# Altium footprint library OptoDevice.PcbLib: 103 footprints (part 1 of 7)
Each footprint in its own frame and in the unit in brackets; x right, y up, seen from the top. Pads: shape width x height; smd on the part's side, far side on the other; paste and mask are expansions set on the pad; w line width, h text height; cw(c..) or ccw(c..) is an arc to the next point about the centre after c.
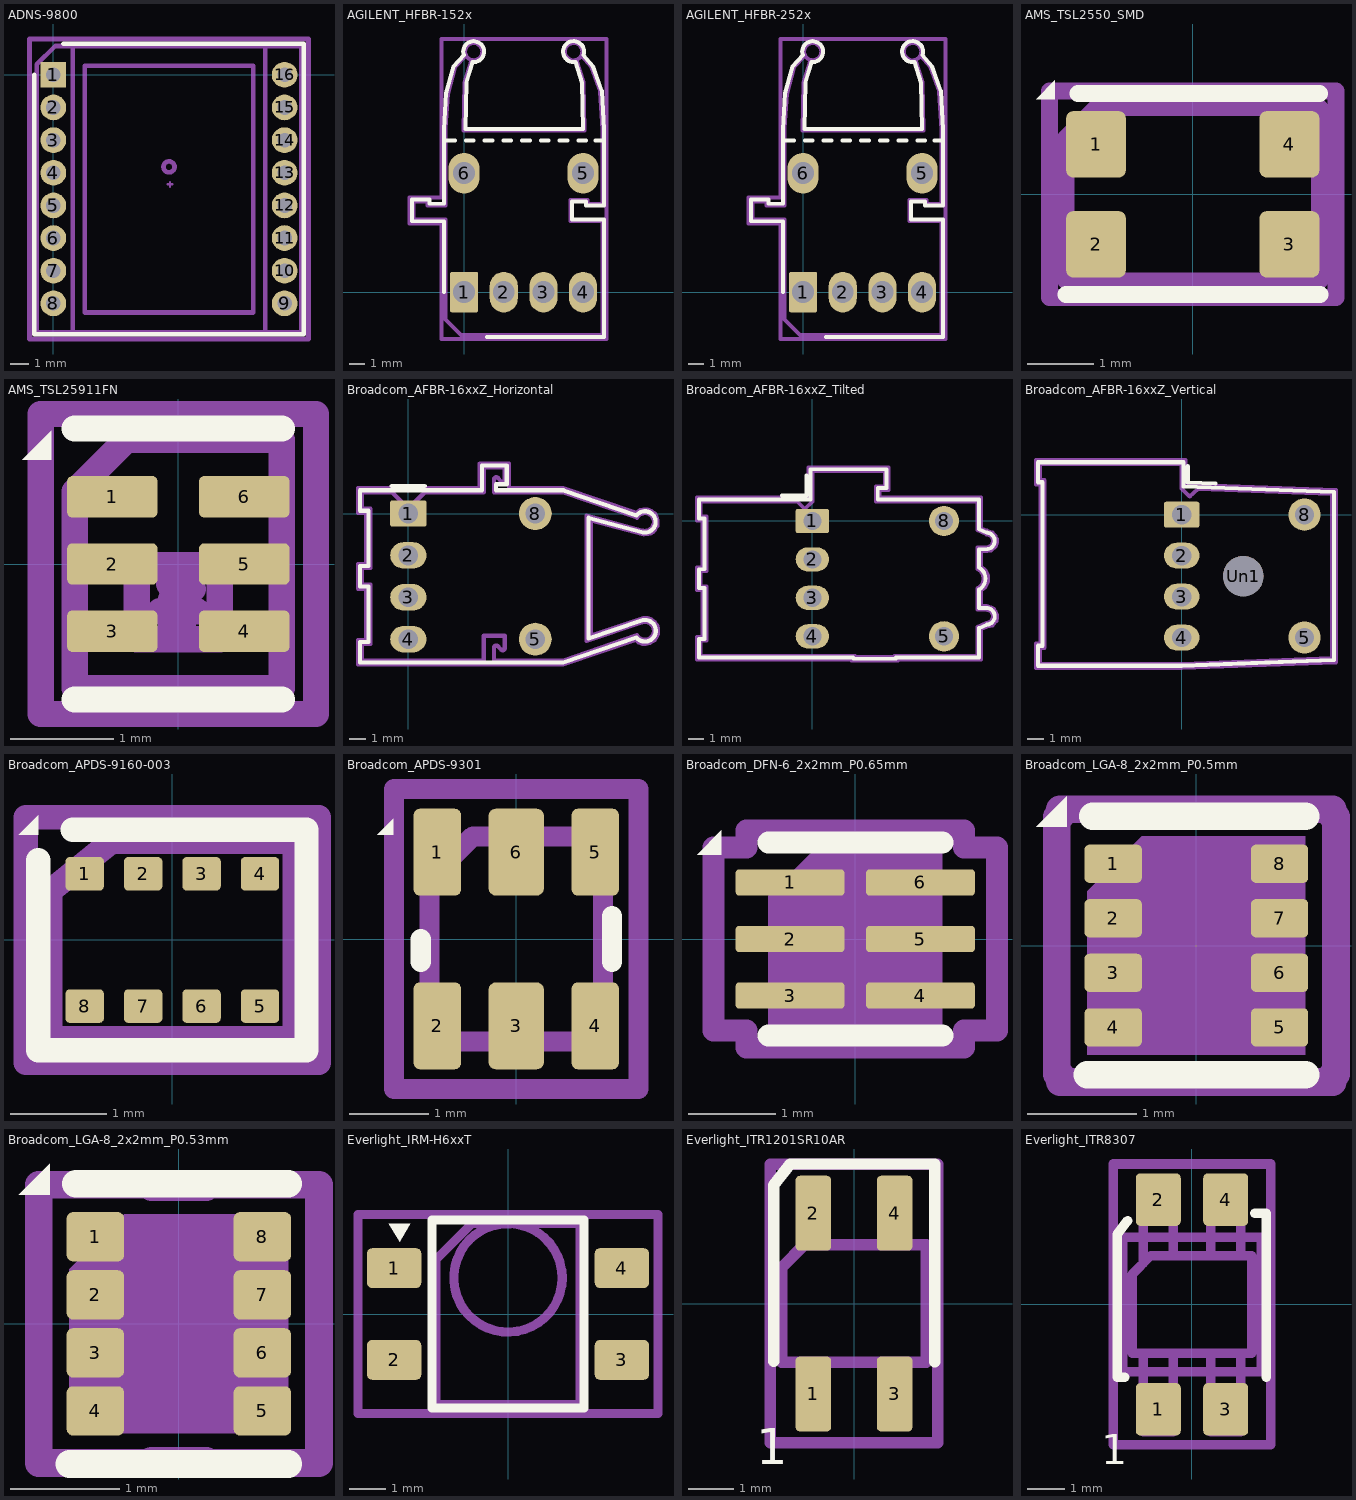
[diagram p0: the footprints below, top view; thin cyan lines are the x and y axes]

## ADNS-9800 [mm]
pads (16):
  rect 1.4x1.4 hole 0.8: 1(0,0)
  round 1.4 hole 0.8: 2(0,-1.78) 3(0,-3.56) 4(0,-5.34) 5(0,-7.12) 6(0,-8.9) 7(0,-10.68) 8(0,-12.46) 9(12.6,-12.46) 10(12.6,-10.68) 11(12.6,-8.9) 12(12.6,-7.12) 13(12.6,-5.34) 14(12.6,-3.56) 15(12.6,-1.78) 16(12.6,0)
F.SilkS:
  lines w0.254: -1.05,0 -1.05,-14.15 13.65,-14.15 13.65,1.7 0.55,1.7
Top Component Center:
  lines w0.127: 6.223,-5.969 6.477,-5.969 ; 6.35,-6.096 6.35,-5.842
Top Assembly:
  lines w0.254: 1.05,-14.03 1.05,1.57 ; 11.55,-14.03 11.55,1.57 ; -0.9,-14.03 13.5,-14.03 13.5,1.57 0.1,1.57 -0.9,0.57 -0.9,-14.03
  text "'.Designator'" at 2.253,-8.34 h1
Top Courtyard:
  lines w0.254: -1.3,-14.4 13.9,-14.4 13.9,1.95 -1.3,1.95 -1.3,-14.4
Top Designator:
  text ".Designator" at -1.318,-6.733 h1.52
Board Shape:
  lines w0.254: 1.7,-12.96 10.9,-12.96 10.9,0.5 1.7,0.5 1.7,-12.96
Dwgs.User:
  circle w0.254: c6.3,-5.02 r0.301
Cmts.User:
  text "Optical Center" at 3.764,-6.695 h0.5

## AGILENT_HFBR-152x [mm]
pads (6):
  rrect14% 1.8x2.6 hole 1.4: 1(0,0)
  rrect100% 1.8x2.6 hole 1.4: 2(2.54,0) 3(5.08,0) 4(7.62,0)
  rrect100% 2x2.6 hole 1.4: 5(7.62,7.62) 6(0,7.62)
F.SilkS:
  lines w0.254: -1.29,0 -1.29,4.54 -3.35,4.54 -3.35,5.92 -2.23,5.92 -2.23,5.66 -1.3,5.66 -1.3,10.43 -1.15,12.74 ; -1.15,12.73 -0.69,14.45 -0.02,15.18 cw(c0.61,15.4) 0.54,14.736 ; -1.09,9.7 -0.59,9.7 ; 0.11,9.7 0.61,9.7 ; 0.54,14.73 0.14,13.4 0.08,10.46 7.6,10.46 7.55,13.42 7.13,14.74 cw(c7.01,15.4) 7.64,15.17 8.26,14.45 8.82,12.87 8.97,10.42 8.97,5.54 7.8,5.54 7.8,5.79 6.92,5.79 6.92,4.66 8.97,4.66 8.97,-2.86 1.48,-2.86 ; 1.31,9.7 1.81,9.7 ; 2.51,9.7 3.01,9.7 ; 3.71,9.7 4.21,9.7 ; 4.91,9.7 5.41,9.7 ; 6.11,9.7 6.61,9.7 ; 7.31,9.7 7.81,9.7 ; 8.41,9.7 8.91,9.7
Top Assembly:
  circle w0.254: c7.01,15.4 r0.559
  circle w0.254: c0.61,15.4 r0.552
  lines w0.254: 0.11,15.15 -0.59,14.4 -1.04,12.7 -1.19,10.5 -1.19,5.55 -2.34,5.55 -2.34,5.8 -3.24,5.8 -3.24,4.65 -1.19,4.65 -1.19,-1.75 -0.19,-2.75 8.86,-2.75 8.86,4.55 6.81,4.55 6.81,5.9 7.91,5.9 7.91,5.65 8.86,5.65 8.86,10.4 8.71,12.85 8.16,14.4 7.51,15.15 ; 0.46,14.85 0.01,13.4 -0.04,10.35 7.71,10.35 7.66,13.45 7.21,14.85
  text "'.Designator'" at -1.237,5.765 h1
Top Courtyard:
  lines w0.254: -3.49,4.4 -1.44,4.4 -1.44,-3 9.11,-3 9.11,16.21 -1.44,16.21 -1.44,6.05 -3.49,6.05 -3.49,4.4
Top Designator:
  text ".Designator" at -4.808,6.097 h1.52

## AGILENT_HFBR-252x [mm]
pads (6):
  rrect14% 1.8x2.6 hole 1.4: 1(0,0)
  rrect100% 1.8x2.6 hole 1.4: 2(2.54,0) 3(5.08,0) 4(7.62,0)
  rrect100% 2x2.6 hole 1.4: 5(7.62,7.62) 6(0,7.62)
F.SilkS:
  lines w0.254: -1.29,0 -1.29,4.54 -3.35,4.54 -3.35,5.92 -2.23,5.92 -2.23,5.66 -1.3,5.66 -1.3,10.43 -1.15,12.74 ; -1.15,12.73 -0.69,14.45 -0.02,15.18 cw(c0.61,15.4) 0.54,14.736 ; -1.09,9.7 -0.59,9.7 ; 0.11,9.7 0.61,9.7 ; 0.54,14.73 0.14,13.4 0.08,10.46 7.6,10.46 7.55,13.42 7.13,14.74 cw(c7.01,15.4) 7.64,15.17 8.26,14.45 8.82,12.87 8.97,10.42 8.97,5.54 7.8,5.54 7.8,5.79 6.92,5.79 6.92,4.66 8.97,4.66 8.97,-2.86 1.48,-2.86 ; 1.31,9.7 1.81,9.7 ; 2.51,9.7 3.01,9.7 ; 3.71,9.7 4.21,9.7 ; 4.91,9.7 5.41,9.7 ; 6.11,9.7 6.61,9.7 ; 7.31,9.7 7.81,9.7 ; 8.41,9.7 8.91,9.7
Top Assembly:
  circle w0.254: c0.61,15.4 r0.552
  circle w0.254: c7.01,15.4 r0.559
  lines w0.254: 0.11,15.15 -0.59,14.4 -1.04,12.7 -1.19,10.5 -1.19,5.55 -2.34,5.55 -2.34,5.8 -3.24,5.8 -3.24,4.65 -1.19,4.65 -1.19,-1.75 -0.19,-2.75 8.86,-2.75 8.86,4.55 6.81,4.55 6.81,5.9 7.91,5.9 7.91,5.65 8.86,5.65 8.86,10.4 8.71,12.85 8.16,14.4 7.51,15.15 ; 0.46,14.85 0.01,13.4 -0.04,10.35 7.71,10.35 7.66,13.45 7.21,14.85
  text "'.Designator'" at -1.237,5.765 h1
Top Courtyard:
  lines w0.254: -3.49,4.4 -3.49,6.05 -1.44,6.05 -1.44,16.21 9.11,16.21 9.11,-3 -1.44,-3 -1.44,4.4 -3.49,4.4
Top Designator:
  text ".Designator" at -4.808,6.097 h1.52

## AMS_TSL2550_SMD [mm]
pads (4):
  rrect25% 0.9x1 smd: 1(-1.45,0.75) 2(-1.45,-0.75) 3(1.45,-0.75) 4(1.45,0.75)
F.SilkS:
  region: -2.07,1.43 -2.35,1.43 -2.07,1.71
  lines w0.254: -1.9,-1.5 1.91,-1.5 ; -1.72,1.51 1.9,1.51
Top Assembly:
  lines w0.254: -1.9,-1.3 1.9,-1.3 1.9,1.3 -1.45,1.3 -1.9,0.85 -1.9,-1.3
  text "'.Designator'" at -3.197,-0.632 h0.8
Top Courtyard:
  lines w0.254: -2.15,-1.55 2.15,-1.55 2.15,1.55 -2.15,1.55 -2.15,-1.55
Top Designator:
  text ".Designator" at -7.698,-0.491 h1.52
3D body "AMS_TSL2550_SMD.step": height 1.35, standoff 0, extent -1.9,-1.3 1.9,1.3

## AMS_TSL25911FN [mm]
pads (6):
  rrect25% 0.875x0.4 smd: 1(-0.637,0.65) 2(-0.637,0) 3(-0.637,-0.65) 4(0.637,-0.65) 5(0.637,0) 6(0.637,0.65)
F.SilkS:
  region: -1.23,1.01 -1.51,1.01 -1.23,1.29
  lines w0.254: -1,-1.31 1,-1.31 ; -1,1.31 1,1.31
Top Assembly:
  lines w0.254: -1,-1.2 -1,0.7 -0.5,1.2 1,1.2 1,-1.2 -1,-1.2
  text "'.Designator'" at 0.504,-2.428 h0.6
Top Courtyard:
  lines w0.254: -1.33,-1.45 -1.33,1.45 1.33,1.45 1.33,-1.45 -1.33,-1.45
Top Designator:
  text ".Designator" at -7.644,-0.598 h1.52
Cmts.User:
  lines w0.254: -0.178,-0.457 -0.076,-0.457 ; -0.076,-0.559 -0.076,-0.356 ; -0.013,-0.114 -0.064,-0.241 ; 0.051,-0.457 0.178,-0.457 ; 0.14,-0.14 0.089,-0.267 ; -0.076,-0.457 0.051,-0.356 0.051,-0.559 -0.076,-0.457 ; -0.064,-0.241 -0.089,-0.191 -0.013,-0.216 -0.064,-0.241 ; 0.089,-0.267 0.064,-0.216 0.14,-0.241 0.089,-0.267 ; -0.401,-0.728 -0.401,-0.012 0.401,-0.012 0.401,-0.728 -0.401,-0.728

## Broadcom_AFBR-16xxZ_Horizontal [mm]
pads (6):
  rrect16% 2.2x1.6 hole 1.2: 1(0,0)
  rrect100% 2.2x1.6 hole 1.2: 2(0,-2.54) 3(0,-5.08) 4(0,-7.62)
  round 2 hole 1.2: 5(7.7,-7.62) 8(7.7,0)
F.SilkS:
  lines w0.254: -2.92,1.397 -2.92,0.17 -2.42,0.17 -2.42,-3.19 -2.92,-3.19 -2.92,-4.43 -2.42,-4.43 -2.42,-7.79 -2.92,-7.79 -2.92,-9.03 9.4,-9.03 13.83,-7.51 ccw(c14.35,-7.11) 14.131,-6.492 ; -2.92,1.41 4.46,1.41 4.46,2.91 5.97,2.91 5.97,1.77 5.31,1.77 5.31,1.41 ; -1,1.67 1,1.67 ; 5.33,1.41 9.4,1.41 ; 9.41,1.41 13.84,-0.11 ; 13.84,-0.11 cw(c14.35,-0.51) 14.13,-1.12 10.93,-0.26 10.93,-7.58 14.14,-6.49
Top Assembly:
  lines w0.254: -2.3,-7.91 -2.8,-7.91 -2.8,-8.91 4.58,-8.91 4.58,-7.41 5.85,-7.41 5.85,-8.16 ; -2.3,-7.9 -2.3,-4.31 -2.8,-4.31 -2.8,-3.31 -2.3,-3.31 -2.3,0.29 -2.8,0.29 -2.8,1.29 -1,1.29 0,0.29 1,1.29 4.58,1.29 4.58,2.79 5.85,2.79 5.85,2.04 ; 5.19,-8.15 5.19,-8.91 9.4,-8.91 13.87,-7.37 ccw(c14.35,-7.11) 14.162,-6.597 ; 5.19,2.05 5.19,1.29 9.4,1.29 13.87,-0.25 ; 5.192,-8.154 cw(c5.34,-8.15) 5.47,-8.08 5.63,-8.25 ccw(c5.72,-8.16) 5.847,-8.16 ; 5.192,2.046 cw(c5.34,2.05) 5.47,2.12 5.63,1.95 ccw(c5.72,2.04) 5.847,2.04 ; 13.871,-0.251 cw(c14.35,-0.51) 14.162,-1.021 ; 14.16,-6.6 10.81,-7.73 10.81,-0.11 14.16,-1.02
  text "'.Designator'" at -0.197,-4.65 h1
Top Courtyard:
  lines w0.254: -3.05,-9.16 9.4,-9.16 13.8,-7.66 13.95,-7.8 14.2,-7.9 14.4,-7.9 14.65,-7.84 14.9,-7.7 15.05,-7.5 15.14,-7.3 15.14,-7 15.1,-6.8 14.95,-6.6 14.7,-6.4 14.52,-6.34 14.24,-6.34 13.99,-6.42 11.06,-7.4 11.06,-0.41 14.28,-1.28 14.55,-1.25 14.7,-1.2 14.85,-1.1 14.95,-1 15.1,-0.75 15.1,-0.4 15.05,-0.2 14.95,0 14.75,0.15 14.5,0.25 14.25,0.25 14.05,0.2 13.8,0.05 9.4,1.54 6.1,1.54 6.1,3.04 4.33,3.04 4.33,1.54 -3.05,1.54 -3.05,0.04 -2.55,0.04 -2.55,-3.06 -3.05,-3.06 -3.05,-4.56 -2.55,-4.56 -2.55,-7.66 -3.05,-7.66 -3.05,-9.16
Top Designator:
  text ".Designator" at -1.573,-3.568 h1.52
3D body "Broadcom_AFBR-16xxZ_Horizontal.step": height 7.6, standoff -3.8, extent -2.8,-8.91 14.906,2.79

## Broadcom_AFBR-16xxZ_Tilted [mm]
pads (6):
  rrect16% 2.2x1.6 hole 1.2: 1(0,0)
  rrect100% 2.2x1.6 hole 1.2: 2(0,-2.54) 3(0,-5.08) 4(0,-7.62)
  round 2 hole 1.2: 5(8.7,-7.62) 8(8.7,0)
F.SilkS:
  lines w0.254: -2,1.67 -0.38,1.67 -0.38,3 ; 11.02,-4.54 11.02,-5.75 11.51,-5.75 ; 11.02,-3.08 11.02,-1.87 11.51,-1.87 ; 11.03,-4.53 ccw(c10.6,-3.81) 11.036,-3.094 ; 11.5,-5.749 cw(c11.5,-6.3) 11.54,-6.85 11.02,-7.08 11.02,-9.03 5.53,-9.03 5.53,-9.1 2.7,-9.1 2.7,-9.03 -7.49,-9.03 -7.49,-7.79 -7.12,-7.79 -7.12,-4.43 -7.49,-4.43 -7.49,-3.19 -7.12,-3.19 -7.12,0.17 -7.49,0.17 -7.49,1.41 -0.12,1.41 -0.12,3.41 4.91,3.41 4.91,2.17 4.32,2.17 4.32,1.41 11.02,1.41 11.02,-0.54 11.53,-0.77 ; 11.5,-1.87 ccw(c11.5,-1.32) 11.54,-0.771
Top Assembly:
  lines w0.254: 10.9,-3.18 10.9,-1.75 11.51,-1.75 ; 10.912,-3.176 cw(c10.6,-3.81) 10.9,-4.45 10.9,-5.87 11.51,-5.87 ; 11.5,-5.87 cw(c11.5,-6.3) 11.5,-6.73 10.9,-7 10.9,-8.91 5.41,-8.91 5.41,-8.98 2.82,-8.98 2.82,-8.91 -7.37,-8.91 -7.37,-7.91 -7,-7.91 -7,-4.31 -7.37,-4.31 -7.37,-3.31 -7,-3.31 -7,0.29 -7.37,0.29 -7.37,1.29 -1,1.29 -0.5,0.79 0,1.29 0,3.29 4.79,3.29 4.79,2.29 4.2,2.29 4.2,1.29 10.9,1.29 10.9,-0.62 11.5,-0.89 ; 11.5,-1.75 ccw(c11.5,-1.32) 11.51,-0.89
  text "'.Designator'" at 0.653,-4.67 h1
Top Courtyard:
  lines w0.254: 11.15,-0.48 11.53,-0.64 11.9,-0.75 12.1,-1 12.2,-1.2 12.2,-1.4 12.1,-1.7 11.81,-1.95 11.54,-2 11.15,-2 11.15,-3.02 11.42,-3.25 11.61,-3.6 11.61,-4 11.42,-4.4 11.15,-4.6 11.15,-5.62 11.51,-5.62 11.8,-5.7 12,-5.8 12.1,-5.99 12.2,-6.2 12.2,-6.4 12.16,-6.6 11.9,-6.9 11.56,-6.98 11.15,-7.16 11.15,-9.16 5.66,-9.16 5.66,-9.23 2.57,-9.23 2.57,-9.16 -7.62,-9.16 -7.62,-7.66 -7.25,-7.66 -7.25,-4.56 -7.62,-4.56 -7.62,-3.06 -7.25,-3.06 -7.25,0.04 -7.62,0.04 -7.62,1.54 -0.25,1.54 -0.25,3.54 5.04,3.54 5.04,2.04 4.45,2.04 4.45,1.54 11.15,1.54 ; 11.15,-0.47 11.15,1.51
Top Designator:
  text ".Designator" at -5.328,-3.353 h1.52
3D body "Broadcom_AFBR-16xxZ_Tilted.step": height 14.89, standoff -3.8, extent -6.225,-8.91 13.116,2.79

## Broadcom_AFBR-16xxZ_Vertical [mm]
pads (7):
  rrect16% 2.2x1.6 hole 1.2: 1(0,0)
  rrect100% 2.2x1.6 hole 1.2: 2(0,-2.54) 3(0,-5.08) 4(0,-7.62)
  round 2 hole 1.2: 5(7.62,-7.62) 8(7.62,0)
  round 2.5 hole 2.5: Un1(3.82,-3.81)
F.SilkS:
  lines w0.254: 0.38,3 0.38,1.99 2.1,1.92 ; -8.9,-9.37 0,-9.37 9.44,-9.02 9.44,1.4 0.12,1.75 0.12,3.25 -8.9,3.25 -8.9,2.01 -8.62,2.01 -8.62,-8.13 -8.9,-8.13 -8.9,-9.37
Top Assembly:
  lines w0.254: 0,1.62 0.5,1.12 1,1.59 9.32,1.28 9.32,-8.9 0,-9.25 -8.78,-9.25 -8.78,-8.25 -8.5,-8.25 -8.5,2.13 -8.78,2.13 -8.78,3.13 0,3.13 0,1.63
  text "'.Designator'" at -8.047,-4.65 h1
Top Courtyard:
  lines w0.254: -9.03,-9.5 0,-9.5 9.57,-9.15 9.57,1.53 0.25,1.88 0.25,3.38 -9.03,3.38 -9.03,1.88 -8.75,1.88 -8.75,-8 -9.03,-8 -9.03,-9.5
Top Designator:
  text ".Designator" at -7.348,-3.568 h1.52
3D body "Broadcom_AFBR-16xxZ_Vertical.step": height 17.95, standoff -3, extent -8.6,-9.11 9.2,2.59

## Broadcom_APDS-9160-003 [mm]
pads (8):
  rrect25% 0.4x0.35 smd: 1(-0.915,0.69) 2(-0.305,0.69) 3(0.305,0.69) 4(0.915,0.69) 5(0.915,-0.69) 6(0.305,-0.69) 7(-0.305,-0.69) 8(-0.915,-0.69)
F.SilkS:
  region: -1.4,1.1 -1.6,1.1 -1.4,1.3
  lines w0.254: -1.4,0.83 -1.4,-1.15 1.4,-1.15 1.4,1.15 -1.04,1.15
Top Assembly:
  lines w0.254: -1.275,-1.025 -1.275,0.513 -0.637,1.025 1.275,1.025 1.275,-1.025 -1.275,-1.025
  text "'.Designator'" at -2.028,-0.425 h0.5
Top Courtyard:
  lines w0.254: -1.53,-1.28 -1.53,1.28 1.53,1.28 1.53,-1.28 -1.53,-1.28
Top Designator:
  text ".Designator" at -7.698,-0.508 h1.52

## Broadcom_APDS-9301 [mm]
pads (6):
  rrect25% 0.6x1.1 smd: 1(-1,1.1) 2(-1,-1.1) 4(1,-1.1) 5(1,1.1)
  rrect25% 0.7x1.1 smd: 3(0,-1.1) 6(0,1.1)
F.SilkS:
  region: -1.56,1.32 -1.76,1.32 -1.56,1.52
  lines w0.254: -1.21,-0.29 -1.21,0 ; 1.21,-0.29 1.21,0.29
Top Assembly:
  lines w0.254: -1.1,-1.3 1.1,-1.3 1.1,1.3 -0.55,1.3 -1.1,0.75 -1.1,-1.3
  text "'.Designator'" at -2.028,-0.425 h0.5
Top Courtyard:
  lines w0.254: -1.55,-1.9 1.55,-1.9 1.55,1.9 -1.55,1.9 -1.55,-1.9
Top Designator:
  text ".Designator" at -7.698,-0.508 h1.52

## Broadcom_DFN-6_2x2mm_P0.65mm [mm]
pads (6):
  rrect25% 1.25x0.3 smd: 1(-0.75,0.65) 2(-0.75,0) 3(-0.75,-0.65) 4(0.75,-0.65) 5(0.75,0) 6(0.75,0.65)
F.SilkS:
  region: -1.54,0.97 -1.82,0.97 -1.54,1.25
  lines w0.254: -1,-1.11 1,-1.11 ; -1,1.11 1,1.11
Top Assembly:
  region: 1,-1 -1,-1 -1,0.5 -0.5,1 1,1
  text "'.Designator'" at -2.028,-0.425 h0.5
Top Courtyard:
  lines w0.254: -1.63,-1.05 -1.25,-1.05 -1.25,-1.25 1.25,-1.25 1.25,-1.05 1.63,-1.05 1.63,1.05 1.25,1.05 1.25,1.25 -1.25,1.25 -1.25,1.05 -1.63,1.05 -1.63,-1.05
Top Designator:
  text ".Designator" at -7.698,-0.508 h1.52

## Broadcom_LGA-8_2x2mm_P0.5mm [mm]
pads (8):
  rrect25% 0.525x0.35 smd: 1(-0.763,0.75) 2(-0.763,0.25) 3(-0.763,-0.25) 4(-0.763,-0.75) 5(0.763,-0.75) 6(0.763,-0.25) 7(0.763,0.25) 8(0.763,0.75)
F.SilkS:
  region: -1.19,1.09 -1.47,1.09 -1.19,1.37
  lines w0.254: -1,-1.185 1,-1.185 ; -0.95,1.185 1,1.185
Top Assembly:
  region: 1,-1 -1,-1 -1,0.5 -0.5,1 1,1
  text "'.Designator'" at -2.028,-0.425 h0.5
Top Courtyard:
  lines w0.254: -1.28,-1.18 -1.25,-1.18 -1.25,-1.25 1.25,-1.25 1.25,-1.18 1.28,-1.18 1.28,1.18 1.25,1.18 1.25,1.25 -1.25,1.25 -1.25,1.18 -1.28,1.18 -1.28,-1.18
Top Designator:
  text ".Designator" at -7.698,-0.508 h1.52

## Broadcom_LGA-8_2x2mm_P0.53mm [mm]
pads (8):
  rrect25% 0.525x0.45 smd: 1(-0.763,0.795) 2(-0.763,0.265) 3(-0.763,-0.265) 4(-0.763,-0.795) 5(0.763,-0.795) 6(0.763,-0.265) 7(0.763,0.265) 8(0.763,0.795)
F.SilkS:
  region: -1.18,1.18 -1.46,1.18 -1.18,1.46
  lines w0.254: -1,-1.28 1,-1.28 ; -0.94,1.28 1,1.28
Top Assembly:
  region: 1,-1 -1,-1 -1,0.5 -0.5,1 1,1
  text "'.Designator'" at -2.028,-0.425 h0.5
Top Courtyard:
  lines w0.254: -1.28,-1.27 -0.25,-1.27 -0.25,-1.25 0.25,-1.25 0.25,-1.27 1.28,-1.27 1.28,1.27 0.25,1.27 0.25,1.25 -0.25,1.25 -0.25,1.27 -1.28,1.27 -1.28,-1.27
Top Designator:
  text ".Designator" at -7.698,-0.481 h1.52

## Everlight_IRM-H6xxT [mm]
pads (4):
  rrect25% 1.5x1.1 smd: 1(-3.15,1.27) 2(-3.15,-1.27) 3(3.15,-1.27) 4(3.15,1.27)
F.SilkS:
  region: -3,2 -3.3,2.5 -2.7,2.5
  lines w0.254: -2.1,-2.6 2.1,-2.6 2.1,2.6 -2.1,2.6 -2.1,-2.6
Top Assembly:
  circle w0.254: c0,1 r1.5
  lines w0.254: -2,-2.5 2,-2.5 2,2.5 -1,2.5 -2,1.5 -2,-2.5
  text "'.Designator'" at -2.073,-1.97 h0.5
Top Courtyard:
  lines w0.254: -4.15,-2.75 4.15,-2.75 4.15,2.75 -4.15,2.75 -4.15,-2.75
Top Designator:
  text ".Designator" at -7.618,-0.508 h1.52

## Everlight_ITR1201SR10AR [mm]
pads (4):
  rrect25% 0.79x1.66 smd: 1(-0.9,-2) 2(-0.9,2) 3(0.9,-2) 4(0.9,2)
F.SilkS:
  lines w0.254: -1.78,-1.28 -1.78,2.62 -1.41,3.09 1.79,3.09 1.79,-1.29
  text "1" at -2.16,-3.55 h0.8
Top Assembly:
  lines w0.254: -1.6,-1.3 -1.6,0.8 -1.1,1.3 1.6,1.3 1.6,-1.3 -1.6,-1.3
  text "'.Designator'" at -3.073,-0.868 h0.75
Top Courtyard:
  lines w0.254: -1.85,-3.08 -1.85,3.08 1.85,3.08 1.85,-3.08 -1.85,-3.08
Top Designator:
  text ".Designator" at -7.768,-0.724 h1.52

## Everlight_ITR8307 [mm]
pads (4):
  rrect20% 1.2x1.4 smd: 1(-0.9,-2.8) 2(-0.9,2.8) 3(0.9,-2.8) 4(0.9,2.8)
F.SilkS:
  lines w0.254: -2,-1.95 -1.8,-1.95 ; -2,-1.94 -2,1.87 -1.72,2.24 ; 1.68,2.43 1.98,2.43 1.98,-1.95
  text "1" at -2.42,-4.26 h0.8
Top Assembly:
  lines w0.254: -1.3,-1.3 -1.3,-3.4 -0.5,-3.4 -0.5,-1.3 ; -1.3,1.1 -1.3,3.3 -0.5,3.3 -0.5,1.3 ; 0.5,-1.3 0.5,-3.4 1.3,-3.4 1.3,-1.3 ; 0.5,1.3 0.5,3.3 1.3,3.3 1.3,1.3 ; -1.6,-1.3 1.6,-1.3 1.6,1.3 -1.1,1.3 -1.6,0.8 -1.6,-1.3
  text "'.Designator'" at -3.073,-0.868 h0.75
Top Courtyard:
  lines w0.254: -2.1,-3.75 2.1,-3.75 2.1,3.75 -2.1,3.75 -2.1,-3.75
Top Designator:
  text ".Designator" at -7.768,-0.749 h1.52
Board Shape:
  lines w0.254: -1.85,-1.8 1.85,-1.8 1.85,1.8 -1.85,1.8 -1.85,-1.8
3D body "Everlight_ITR8307.step": height 1, standoff -0.4, extent -1.6,-3.35 1.6,3.35